# Altium schematic symbol library iv_power_ic.SchLib: 7 symbols
Pins are listed as number, name and electrical type; pins without a type are passive.

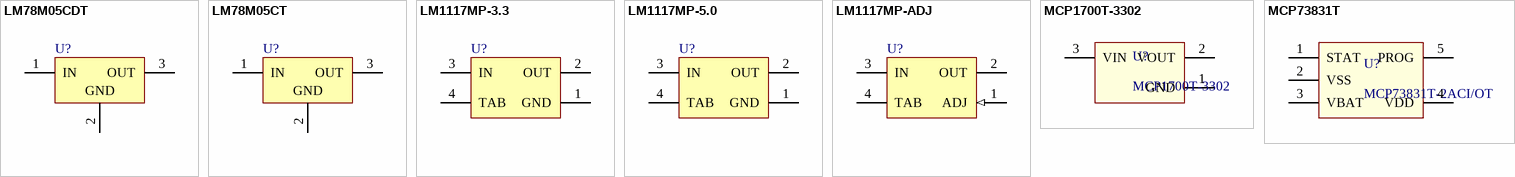
[diagram p0: symbols LM78M05CDT to MCP73831T]

## LM78M05CDT
designator U?
3-Terminal Positive Voltage Regulators
footprint DPAK_TO252
pins: 1 IN (power), 2 GND (power), 3 OUT (power)

## LM78M05CT
designator U?
3-Terminal Positive Voltage Regulators
footprint TO-220AB (TO, Thru-Hole, Vertical, Heatsink Mounted; 3 In-Line Leads; Pitch 2.54 mm)
pins: 1 IN (power), 2 GND (power), 3 OUT (power)

## LM1117MP-3.3
designator U?
800mA Low-Dropout Linear Regulator
footprint SOT223 (SOT223 /SC-73)
footprint D2PAK-3 (D-PAK/TO-263-3; 3 Leads (1 Cropped); Body 14.7 (inc. leads) x 10.2 mm (LxW max))
footprint TO-252 (D-PAK/TO-252-AA; 3 Leads (1 Cropped); Body 10.3 (inc. leads) x 6.7 mm (LxW max))
pins: 1 GND (power), 2 OUT (power), 3 IN (power), 4 TAB (power)

## LM1117MP-5.0
designator U?
800mA Low-Dropout Linear Regulator
footprint SOT223 (SOT223 /SC-73)
footprint D2PAK-3 (D-PAK/TO-263-3; 3 Leads (1 Cropped); Body 14.7 (inc. leads) x 10.2 mm (LxW max))
pins: 1 GND (power), 2 OUT (power), 3 IN (power), 4 TAB (power)

## LM1117MP-ADJ
designator U?
800mA Low-Dropout Linear Regulator
footprint SOT223 (SOT223 /SC-73)
footprint D2PAK-3 (D-PAK/TO-263-3; 3 Leads (1 Cropped); Body 14.7 (inc. leads) x 10.2 mm (LxW max))
pins: 1 ADJ (in), 2 OUT (power), 3 IN (power), 4 TAB (power)

## MCP1700T-3302
designator U?
Low Quiescent Current LDO, 3-Pin SOT-23, Extended Temperature, Tape and Reel
footprint SOT95P248X115-3L (SOT23, 3-Leads, Body 2,95x2,48mm, Pitch 0,95mm, IPC High Density)
footprint SOT95P248X115-3M (SOT23, 3-Leads, Body 2,95x2,48mm, Pitch 0,95mm, IPC Low Density)
footprint SOT95P248X115-3N (SOT23, 3-Leads, Body 2,95x2,48mm, Pitch 0,95mm, IPC Medium Density)
pins: 1 GND, 2 VOUT, 3 VIN

## MCP73831T
designator U?, comment MCP73831T-2ACI/OT
Miniature Single-Cell, Fully Integrated Li-Ion, Li-Polymer Charge Management Controller, 4.35V, 5-Pin SOT-23, Industrial Temperature, Tape and Reel
footprint SOT23-5
pins: 1 STAT, 2 VSS, 3 VBAT, 4 VDD, 5 PROG